# EAGLE library part TPA2017D2 (library mike-temp)
2.8-W/Ch Stereo Class-D Audio Amplifier with SmartgainTM DRC and AGC The TPA2017D2 is a stereo, filter-free Class-D audio power amplifier with SmartgainTM dynamic range compression (DRC), automatic gain control (AGC), and noise gate. It is available in a 4 mm x 4 mm 20-pin QFN package. SmartgainTM functions are configured to automatically prevent distortion of the audio signal and enhance quiet passages that are normally not heard. SmartgainTM is a combined AGC DRC and Limiter that protects the speaker from damage at high power levels and compress the dynamic range of voice or music to fit within the dynamic range of the speaker. SmartgainTM DRC, limiter and noise gate functions can be enabled or disabled. The TPA2017D2 is capable of driving 1.7 W/Ch at 5V or 750mW/Ch at 3.6V into 8 Ohm load, or 2.8W/Ch at 5V or 1.5W/Ch at 3.6V into 4 Ohms. The device features an enable pin and also provides thermal and short circuit protection. In addition to these features a fast start-up time and small package size make the TPA2017D2 an ideal choice for notebook PCs, PDAs and other portable applications. · Filter-Free Class-D Architecture · 3 SmartgainTM functions - AGC DRC Function - AGC Limiter Function - AGC Noise Gate Function · 1.7 W/Ch Into 8 ? at 5 V (10% THD+N) · 750 mW/Ch Into 8 ? at 3.6 V (10% THD+N) · 2.8 W/Ch Into 4 ? at 5 V (10% THD+N) · 1.5 W/Ch Into 4 ? at 3.6 V (10% THD+N) · Power Supply Range: 2.5 V to 5.5 V · Low Supply Current: 3.5 mA · Low Shutdown Current: 0.2 uA · High PSRR: 75 dB at 217 Hz · Fast Start-up Time: 5 ms · Short-Circuit and Thermal Protection
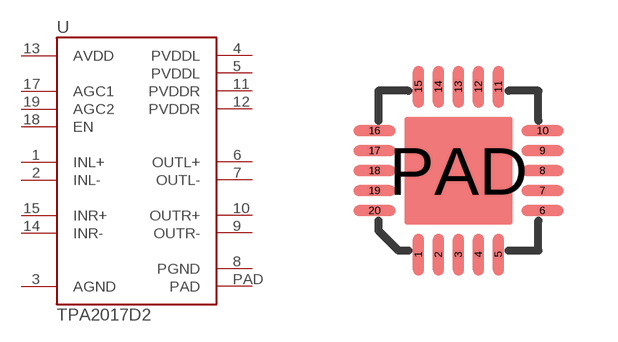
[diagram p19: symbol with the pads of QFN-20-0.5MM; footprint QFN-20-0.5MM]

Designator prefix U

## TPA2017D2RTJ  [QFN-20-0.5MM]
1  INL+  in
2  INL-  in
3  AGND  pwr
4  PVDDL  pwr
5  PVDDL  pwr
6  OUTL+  out
7  OUTL-  out
8  PGND  pwr
9  OUTR-  out
10  OUTR+  out
11  PVDDR  pwr
12  PVDDR  pwr
13  AVDD  pwr
14  INR-  in
15  INR+  in
17  AGC1
18  EN  in
19  AGC2
PAD  PAD  pwr

## Footprint QFN-20-0.5MM (pad centres in mm)
smd 0.28 x 1.05: 1 -1,-2.1; 2 -0.5,-2.1; 3 0,-2.1; 4 0.5,-2.1; 5 1,-2.1; 11 1,2.1; 12 0.5,2.1; 13 0,2.1; 14 -0.5,2.1; 15 -1,2.1
smd 1.05 x 0.28: 6 2.1,-1; 7 2.1,-0.5; 8 2.1,0; 9 2.1,0.5; 10 2.1,1; 16 -2.1,1; 17 -2.1,0.5; 18 -2.1,0; 19 -2.1,-0.5; 20 -2.1,-1
smd 2.7 x 2.7: PAD 0,0